# Altium schematic symbol library MyLibs_Mux_Demux.SchLib: 7 symbols
Pins are listed as number, name and electrical type; pins without a type are passive.

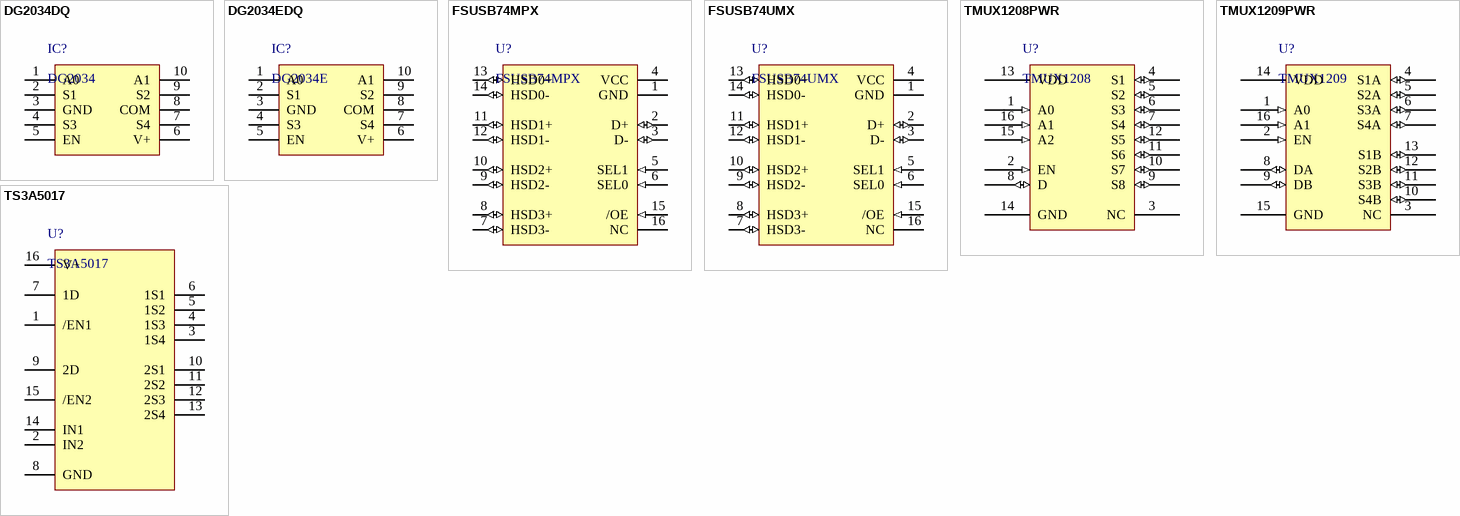
[diagram p0: symbols DG2034DQ to TS3A5017]

## DG2034DQ
designator IC?, comment DG2034
Single 4:1 Low rON Multiplexers. Package: MSOP-10
footprint MSOP-UN10_M (Footprint not found)
pins: 1 A0, 2 S1, 3 GND, 4 S3, 5 EN, 6 V+, 7 S4, 8 COM, 9 S2, 10 A1

## DG2034EDQ
designator IC?, comment DG2034E
Single 4:1 Low rON Multiplexers. Package: MSOP-10
footprint MSOP-UN10_M (Footprint not found)
pins: 1 A0, 2 S1, 3 GND, 4 S3, 5 EN, 6 V+, 7 S4, 8 COM, 9 S2, 10 A1

## FSUSB74MPX
designator U?
4:1 High-Speed USB Multiplexer/Switch. Package: QFN-16
pins: 1 GND (power), 2 D+ (io), 3 D- (io), 4 VCC (power), 5 SEL1 (in), 6 SEL0 (in), 7 HSD3- (io), 8 HSD3+ (io), 9 HSD2- (io), 10 HSD2+ (io), 11 HSD1+ (io), 12 HSD1- (io), 13 HSD0+ (io), 14 HSD0- (io), 15 /OE (in), 16 NC, 17 GND PAD (power) hidden to GND

## FSUSB74UMX
designator U?
4:1 High-Speed USB Multiplexer/Switch. Package: UMLP-16
pins: 1 GND (power), 2 D+ (io), 3 D- (io), 4 VCC (power), 5 SEL1 (in), 6 SEL0 (in), 7 HSD3- (io), 8 HSD3+ (io), 9 HSD2- (io), 10 HSD2+ (io), 11 HSD1+ (io), 12 HSD1- (io), 13 HSD0+ (io), 14 HSD0- (io), 15 /OE (in), 16 NC

## TMUX1208PWR
designator U?, comment TMUX1208
5-V Bidirectional 8:1, 1-Channel Multiplexer
pins: 1 A0 (in), 2 EN (in), 3 NC, 4 S1 (io), 5 S2 (io), 6 S3 (io), 7 S4 (io), 8 D (io), 9 S8 (io), 10 S7 (io), 11 S6 (io), 12 S5 (io), 13 VDD (power), 14 GND (power), 15 A2 (in), 16 A1 (in)

## TMUX1209PWR
designator U?, comment TMUX1209
5-V Bidirectional 4:2, 2-Channel Multiplexer
pins: 1 A0 (in), 2 EN (in), 3 NC, 4 S1A (io), 5 S2A (io), 6 S3A (io), 7 S4A (io), 8 DA (io), 9 DB (io), 10 S4B (io), 11 S3B (io), 12 S2B (io), 13 S1B (io), 14 VDD (power), 15 GND (power), 16 A1 (in)

## TS3A5017
designator U?
Dual SP4T Analog Switch / Multiplexer / Demultiplexer. Packages: 16 Pin SOIC, SSOP, TVSOP and TSSOP
footprint TSSOP-16
pins: 1 /EN1, 2 IN2, 3 1S4, 4 1S3, 5 1S2, 6 1S1, 7 1D, 8 GND, 9 2D, 10 2S1, 11 2S2, 12 2S3, 13 2S4, 14 IN1, 15 /EN2, 16 V+